# Altium footprint library Theremin.PcbLib: 21 footprints (part 1 of 2)
Each footprint in its own frame and in the unit in brackets; x right, y up, seen from the top. Pads: shape width x height; smd on the part's side, far side on the other; paste and mask are expansions set on the pad; w line width, h text height; cw(c..) or ccw(c..) is an arc to the next point about the centre after c.
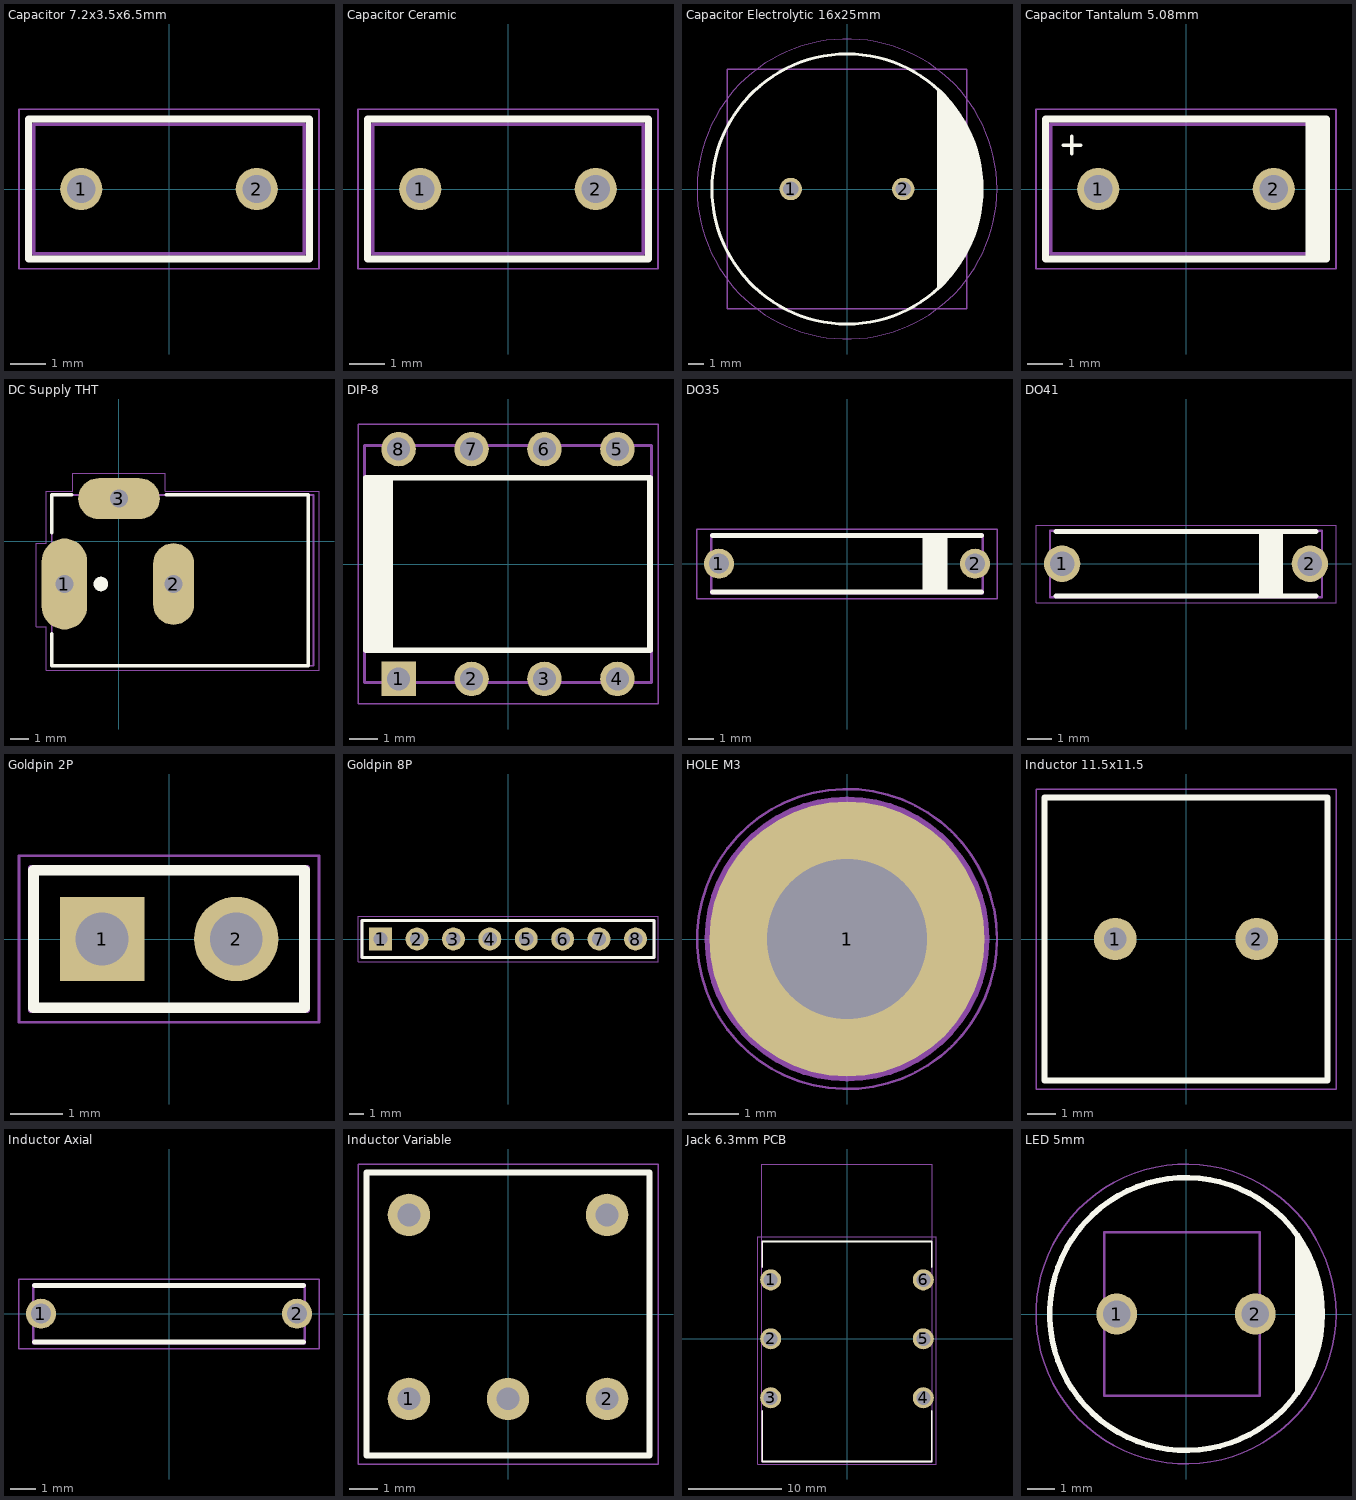
[diagram p0: the footprints below, top view; thin cyan lines are the x and y axes]

## Capacitor 7.2x3.5x6.5mm [mm]
pads (2):
  round 1.2 hole 0.8: 1(-2.5,0) 2(2.5,0)
Top Overlay:
  lines w0.2: -4,-2 -4,2 4,2 4,-2 -4,-2
Mechanical 13:
  lines w0.1: -3.85,-1.85 3.85,-1.85 3.85,1.85 -3.85,1.85 -3.85,-1.85
  text ".Designator" at -2.45,-0.317 h1
Mechanical 15:
  lines w0.05: -4.275,-2.275 4.275,-2.275 4.275,2.275 -4.275,2.275 -4.275,-2.275
3D body "User Library-B32529-2_5X6_5X7_2.STEP": height 6.5, standoff -3, extent -3.481,-1.287 3.719,1.213

## Capacitor Ceramic [mm]
pads (2):
  round 1.2 hole 0.8: 1(-2.5,0) 2(2.5,0)
Top Overlay:
  lines w0.2: -4,-2 4,-2 4,2 -4,2 -4,-2
Mechanical 13:
  lines w0.1: -3.85,-1.85 -3.85,1.85 3.85,1.85 3.85,-1.85 -3.85,-1.85
  text ".Designator" at -2.45,-0.317 h1
Mechanical 15:
  lines w0.05: -4.275,-2.275 -4.275,2.275 4.275,2.275 4.275,-2.275 -4.275,-2.275
3D body "User Library-Disc_CAP d6x3_5_5mm.step": height 8.1, standoff -2.02, extent -3,-1.05 3,1.05

## Capacitor Electrolytic 16x25mm [mm]
pads (2):
  round 1.5 hole 1: 1(-3.75,0) 2(3.75,0)
Top Overlay:
  circle w0.2: c0,0 r9
  region: 6,-6.75 6,6.75 6.925,5.707 8.066,4.072 8.75,2.25 9.015,-0.324 8.863,-1.71 8.181,-3.855 7.104,-5.469 6.625,-6.125
Mechanical 13:
  lines w0.1: -8,-8 8,-8 8,8 -8,8 -8,-8
  text ".Designator" at -1.26,-0.027 h0.7
Mechanical 15:
  circle w0.05: c0,0 r10
3D body "User Library-Cap16x25.STEP": height 25.5, standoff -18.5, extent -8,-8 8,8

## Capacitor Tantalum 5.08mm [mm]
pads (2):
  round 1.2 hole 0.8: 1(-2.5,0) 2(2.5,0)
Top Overlay:
  rectangle: 3.4,-2 4,2
  lines w0.1: -3.5,1.25 -3,1.25 ; -3.25,1 -3.25,1.5
  lines w0.2: -4,-2 4,-2 4,2 -4,2 -4,-2
Mechanical 13:
  lines w0.1: -3.85,-1.85 -3.85,1.85 3.85,1.85 3.85,-1.85 -3.85,-1.85
  text ".Designator" at -2.45,-0.317 h1
Mechanical 15:
  lines w0.05: -4.275,-2.275 -4.275,2.275 4.275,2.275 4.275,-2.275 -4.275,-2.275
3D body "User Library-C322.step": height 7.81, standoff -1.81, extent -2.795,-1.58 2.795,1.6

## DC Supply THT [mm]
pads (3):
  oval 2.5x5 hole 1 square: 1(-3,-2.35)
  oval 2.25x4.5 hole 1 square: 2(3,-2.35)
  oval 4.5x2.25 hole 1 square: 3(0,2.35)
Top Overlay:
  circle w0.4: c-1,-2.35 r0.2
  lines w0.2: -3.7,-5.1 -3.7,-6.85 10.4,-6.85 10.4,2.55 2.6,2.55 ; -3.7,0.475 -3.7,2.55 -2.6,2.55
Mechanical 13:
  lines w0.1: -3.7,-6.85 10.7,-6.85 10.7,2.55 -3.7,2.55 -3.7,-6.85
  lines w1: -2.619,-2.286 cw(c-2.819,-2.286) -2.62,-2.265
  text ".Designator" at -0.127,-2.87 h2
Mechanical 15:
  lines w0.05: -4.55,-4.7 -4,-4.7 -4,-7.1 11,-7.1 11,2.75 2.55,2.75 2.55,3.75 -2.55,3.75 -2.55,2.75 -4,2.75 -4,-0.1 -4.55,-0.1 -4.55,-4.7
3D body "CUI_DEVICES_PJ-002A.step": height 11, standoff -3.5, extent -3.675,-6.85 10.725,2.55

## DIP-8 [mm]
pads (8):
  rect 1.2x1.2 hole 0.8: 1(-3.81,-4)
  round 1.2 hole 0.8: 2(-1.27,-4) 3(1.27,-4) 4(3.81,-4) 5(3.81,4) 6(1.27,4) 7(-1.27,4) 8(-3.81,4)
Top Overlay:
  rectangle: -4.95,-3 -4,3
  lines w0.2: -4.95,-3 4.95,-3 4.95,3 -4.95,3 -4.95,-3
Mechanical 13:
  lines w0.1: -5,-4.125 -5,4.125 5,4.125 5,-4.125 -5,-4.125
  text ".Designator" at -2.45,-0.317 h1
Mechanical 15:
  lines w0.05: -5.225,-4.875 5.225,-4.875 5.225,4.875 -5.225,4.875 -5.225,-4.875
3D body "User Library-PDIP-8.step": height 5.1, standoff -3.18, extent -5,-4.13 5,4.13

## DO35 [mm]
pads (2):
  round 1.2 hole 0.8: 1(-5.1,0) 2(5.1,0)
Top Overlay:
  rectangle: 3,-1.2 4,1.225
  lines w0.2: -5.35,-1.125 5.35,-1.125 ; -5.35,1.125 5.35,1.125
Mechanical 13:
  lines w0.1: -5.4,-1.175 5.4,-1.175 5.4,1.15 -5.4,1.15 -5.4,-1.175
  text ".Designator" at -2.45,-0.317 h1
Mechanical 15:
  lines w0.05: -5.975,-1.4 -5.975,1.375 5.975,1.375 5.975,-1.4 -5.975,-1.4
3D body "User Library-do_35.step": height 2.15, standoff -2.54, extent -5.346,-0.87 5.346,0.87

## DO41 [mm]
pads (2):
  round 1.5 hole 1: 1(-5.1,0) 2(5.1,0)
Top Overlay:
  rectangle: 3,-1.425 4,1.425
  lines w0.2: -5.35,-1.325 5.35,-1.325 ; -5.35,1.325 5.35,1.325
Mechanical 13:
  lines w0.1: -5.6,-1.375 5.6,-1.375 5.6,1.35 -5.6,1.35 -5.6,-1.375
  text ".Designator" at -2.45,-0.317 h1
Mechanical 15:
  lines w0.05: -6.175,-1.6 -6.175,1.575 6.175,1.575 6.175,-1.6 -6.175,-1.6
3D body "User Library-DO-41-2.step": height 2.72, standoff -2.6, extent -5.512,-1.36 5.512,1.36

## Goldpin 2P [mm]
pads (2):
  rect 1.6x1.6 hole 1: 1(-1.27,0)
  round 1.6 hole 1: 2(1.27,0)
Top Overlay:
  lines w0.2: -2.57,-1.3 2.565,-1.3 2.565,1.3 -2.57,1.3 -2.57,-1.3
Mechanical 13:
  lines w0.1: -2.62,-1.35 -2.62,1.35 2.615,1.35 2.615,-1.35 -2.62,-1.35
  text ".Designator" at -2.215,-0.2 h1.5
Mechanical 15:
  lines w0.05: -2.845,-1.575 2.84,-1.575 2.84,1.575 -2.845,1.575 -2.845,-1.575
3D body "User Library-HDR1X1 Rectangular Straight.step": height 8.6, standoff -3.2, extent -2.62,-1.35 0.08,1.35
3D body "User Library-HDR1X1 Rectangular Straight.step": height 8.6, standoff -3.2, extent -0.08,-1.35 2.62,1.35

## Goldpin 8P [mm]
pads (8):
  rect 1.6x1.6 hole 1: 1(-8.89,0)
  round 1.6 hole 1: 2(-6.35,0) 3(-3.81,0) 4(-1.27,0) 5(1.27,0) 6(3.81,0) 7(6.35,0) 8(8.89,0)
Top Overlay:
  lines w0.2: -10.19,-1.3 10.185,-1.3 10.185,1.3 -10.19,1.3 -10.19,-1.3
Mechanical 13:
  lines w0.1: -10.24,-1.35 -10.24,1.35 10.235,1.35 10.235,-1.35 -10.24,-1.35
  text ".Designator" at -2.215,-0.2 h1.5
Mechanical 15:
  lines w0.05: -10.465,-1.575 10.46,-1.575 10.46,1.575 -10.465,1.575 -10.465,-1.575
3D body "User Library-HDR1X1 Rectangular Straight.step": height 8.6, standoff -3.2, extent -10.24,-1.35 -7.54,1.35
3D body "User Library-HDR1X1 Rectangular Straight.step": height 8.6, standoff -3.2, extent -7.7,-1.35 -5,1.35
3D body "User Library-HDR1X1 Rectangular Straight.step": height 8.6, standoff -3.2, extent -5.16,-1.35 -2.46,1.35
3D body "User Library-HDR1X1 Rectangular Straight.step": height 8.6, standoff -3.2, extent -2.62,-1.35 0.08,1.35
3D body "User Library-HDR1X1 Rectangular Straight.step": height 8.6, standoff -3.2, extent -0.08,-1.35 2.62,1.35
3D body "User Library-HDR1X1 Rectangular Straight.step": height 8.6, standoff -3.2, extent 2.46,-1.35 5.16,1.35
3D body "User Library-HDR1X1 Rectangular Straight.step": height 8.6, standoff -3.2, extent 5,-1.35 7.7,1.35
3D body "User Library-HDR1X1 Rectangular Straight.step": height 8.6, standoff -3.2, extent 7.54,-1.35 10.24,1.35

## HOLE M3 [mm]
pads (1):
  round 5.5 hole 3.2: 1(0,0)
Mechanical 13:
  circle w0.2: c0,0 r2.75
  text ".Designator" at -1.8,-0.217 h1
Mechanical 15:
  circle w0.05: c0,0 r3

## Inductor 11.5x11.5 [mm]
pads (2):
  round 1.5 hole 0.8: 1(-2.5,0) 2(2.5,0)
Top Overlay:
  lines w0.2: -5,-5 5,-5 5,5 -5,5 -5,-5
Mechanical 13:
  lines w0.1: -5,-5 -5,5 5,5 5,-5 -5,-5
  text ".Designator" at -4.8,-0.217 h1
Mechanical 15:
  lines w0.05: -5.3,-5.3 5.3,-5.3 5.3,5.3 -5.3,5.3 -5.3,-5.3
3D body "User Library-RLB 0912.step": height 10, standoff -5, extent -4.35,-4.35 4.35,4.35

## Inductor Axial [mm]
pads (2):
  round 1.2 hole 0.8: 1(-5.1,0) 2(5.1,0)
Top Overlay:
  lines w0.2: -5.35,-1.125 5.35,-1.125 ; -5.35,1.125 5.35,1.125
Mechanical 13:
  lines w0.1: -5.4,-1.175 5.4,-1.175 5.4,1.15 -5.4,1.15 -5.4,-1.175
  text ".Designator" at -2.45,-0.317 h1
Mechanical 15:
  lines w0.05: -5.975,-1.4 -5.975,1.375 5.975,1.375 5.975,-1.4 -5.975,-1.4
3D body "User Library-Res40-Axial 0_25W-150R.step": height 2.41, standoff -2, extent -5.401,-1.204 5.359,1.179

## Inductor Variable [mm]
pads (5):
  round 1.5 hole 0.8: 1(-3.5,-3) 2(3.5,-3) ""(-3.5,3.5) ""(0,-3) ""(3.5,3.5)
Top Overlay:
  lines w0.2: -5,-5 5,-5 5,5 -5,5 -5,-5
Mechanical 13:
  lines w0.1: -5,-5 -5,5 5,5 5,-5 -5,-5
  text ".Designator" at -4.8,-0.217 h1
Mechanical 15:
  lines w0.05: -5.3,-5.3 5.3,-5.3 5.3,5.3 -5.3,5.3 -5.3,-5.3
3D body "User Library-7M2_CASE.step": height 11.68, standoff -3.5, extent -3.81,-3.81 3.81,3.81

## Jack 6.3mm PCB [mm]
pads (6):
  round 2.25 hole 1.5: 1(-8.15,6.3) 2(-8.15,0) 3(-8.15,-6.3) 4(8.15,-6.3) 5(8.15,0) 6(8.15,6.3)
Top Overlay:
  lines w0.2: -9.05,-7.725 -9.05,-13.1 -8.075,-13.1 9.05,-13.1 9.05,-7.725 ; -9.05,7.675 -9.05,10.4 -5.45,10.4 9.05,10.4 9.05,7.675
Mechanical 13:
  lines w0.1: -9.1,-13.15 9.1,-13.15 9.1,18.675 -9.1,18.675 -9.1,-13.15
  text ".Designator" at 0.675,-11.875 h3
Mechanical 15:
  lines w0.05: -9.55,-13.375 -9.55,10.9 9.55,10.9 9.55,-13.375 -9.55,-13.375
3D body "User Library-Audio Jack Neutrik Amphenol 6_35.STEP": height 16.3, standoff -3.64, extent -9.1,-13.13 9.1,18.664

## LED 5mm [mm]
pads (2):
  round 1.5 hole 1: 1(-2.54,0) 2(2.54,0)
Top Overlay:
  circle w0.2: c0,0 r5
  region: 4,-3.091 4,3 4.75,1.625 4.708,1.517 4.875,1.35 4.875,0.525 5,0.4 5,-0.425 4.925,-0.5 4.925,-0.85 4.875,-1.1
Mechanical 13:
  lines w0.1: -3,-3 -3,3 2.7,3 2.7,-3 -3,-3
  text ".Designator" at -1.26,-0.027 h0.7
Mechanical 15:
  circle w0.05: c0,0 r5.5
3D body "User Library-led 5mm green.step": height 16.86, standoff -19.97, extent -3,-2.993 2.7,2.993